# EAGLE library part THROUHOLE12 (library pinhead-half-pitch)
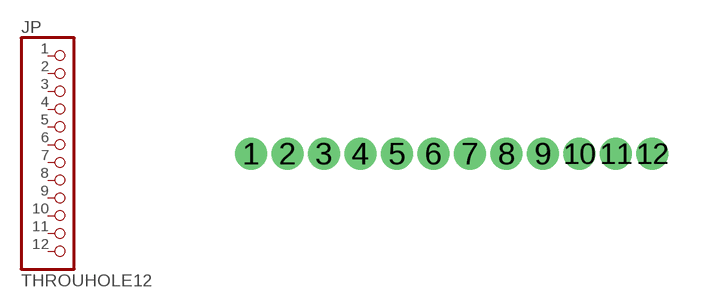
[diagram p4: symbol with the pads of THROUHOLE12; footprint THROUHOLE12]

Designator prefix JP

## THROUHOLE12  [THROUHOLE12]
1  1  pas
2  2  pas
3  3  pas
4  4  pas
5  5  pas
6  6  pas
7  7  pas
8  8  pas
9  9  pas
10  10  pas
11  11  pas
12  12  pas

## Footprint THROUHOLE12 (pad centres in mm)
drill 0.6: 1 -6.985,0; 2 -5.715,0; 3 -4.445,0; 4 -3.175,0; 5 -1.905,0; 6 -0.635,0; 7 0.635,0; 8 1.905,0; 9 3.175,0; 10 4.445,0; 11 5.715,0; 12 6.985,0